# EAGLE library part ADC101C027CIMKX/NOPB (library ICs)
10 Bit Analog to Digital Converter 1 Input 1 SAR SOT-23-THIN
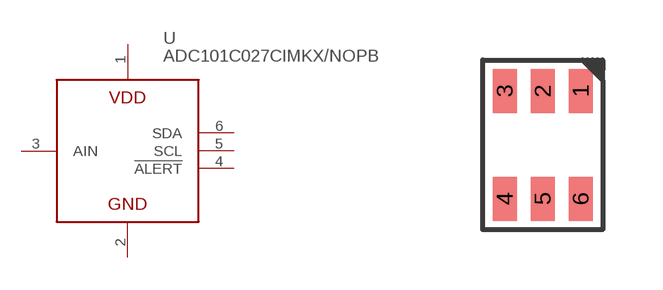
[diagram p340: symbol with the pads of SOT23-6; footprint SOT23-6]

Designator prefix U

## ADC101C027CIMKX/NOPB (DIGIKEY: 296-44559-1-ND; HEIGHT: 1.5; PRICE_PER: 1.29; VALUE: ADC101C027)  [SOT23-6]
1  VDD
2  GND
3  AIN
4  !ALERT
5  SCL
6  SDA

## Footprint SOT23-6 (pad centres in mm)
smd 0.6 x 1.1: 1 0.95,1.35; 2 0,1.35; 3 -0.95,1.35; 4 -0.95,-1.35; 5 0,-1.35; 6 0.95,-1.35